# Altium footprint library SparkFun-Resistors.PCBLIB: 28 footprints (part 1 of 2)
Each footprint in its own frame and in the unit in brackets; x right, y up, seen from the top. Pads: shape width x height; smd on the part's side, far side on the other; paste and mask are expansions set on the pad; w line width, h text height; cw(c..) or ccw(c..) is an arc to the next point about the centre after c.
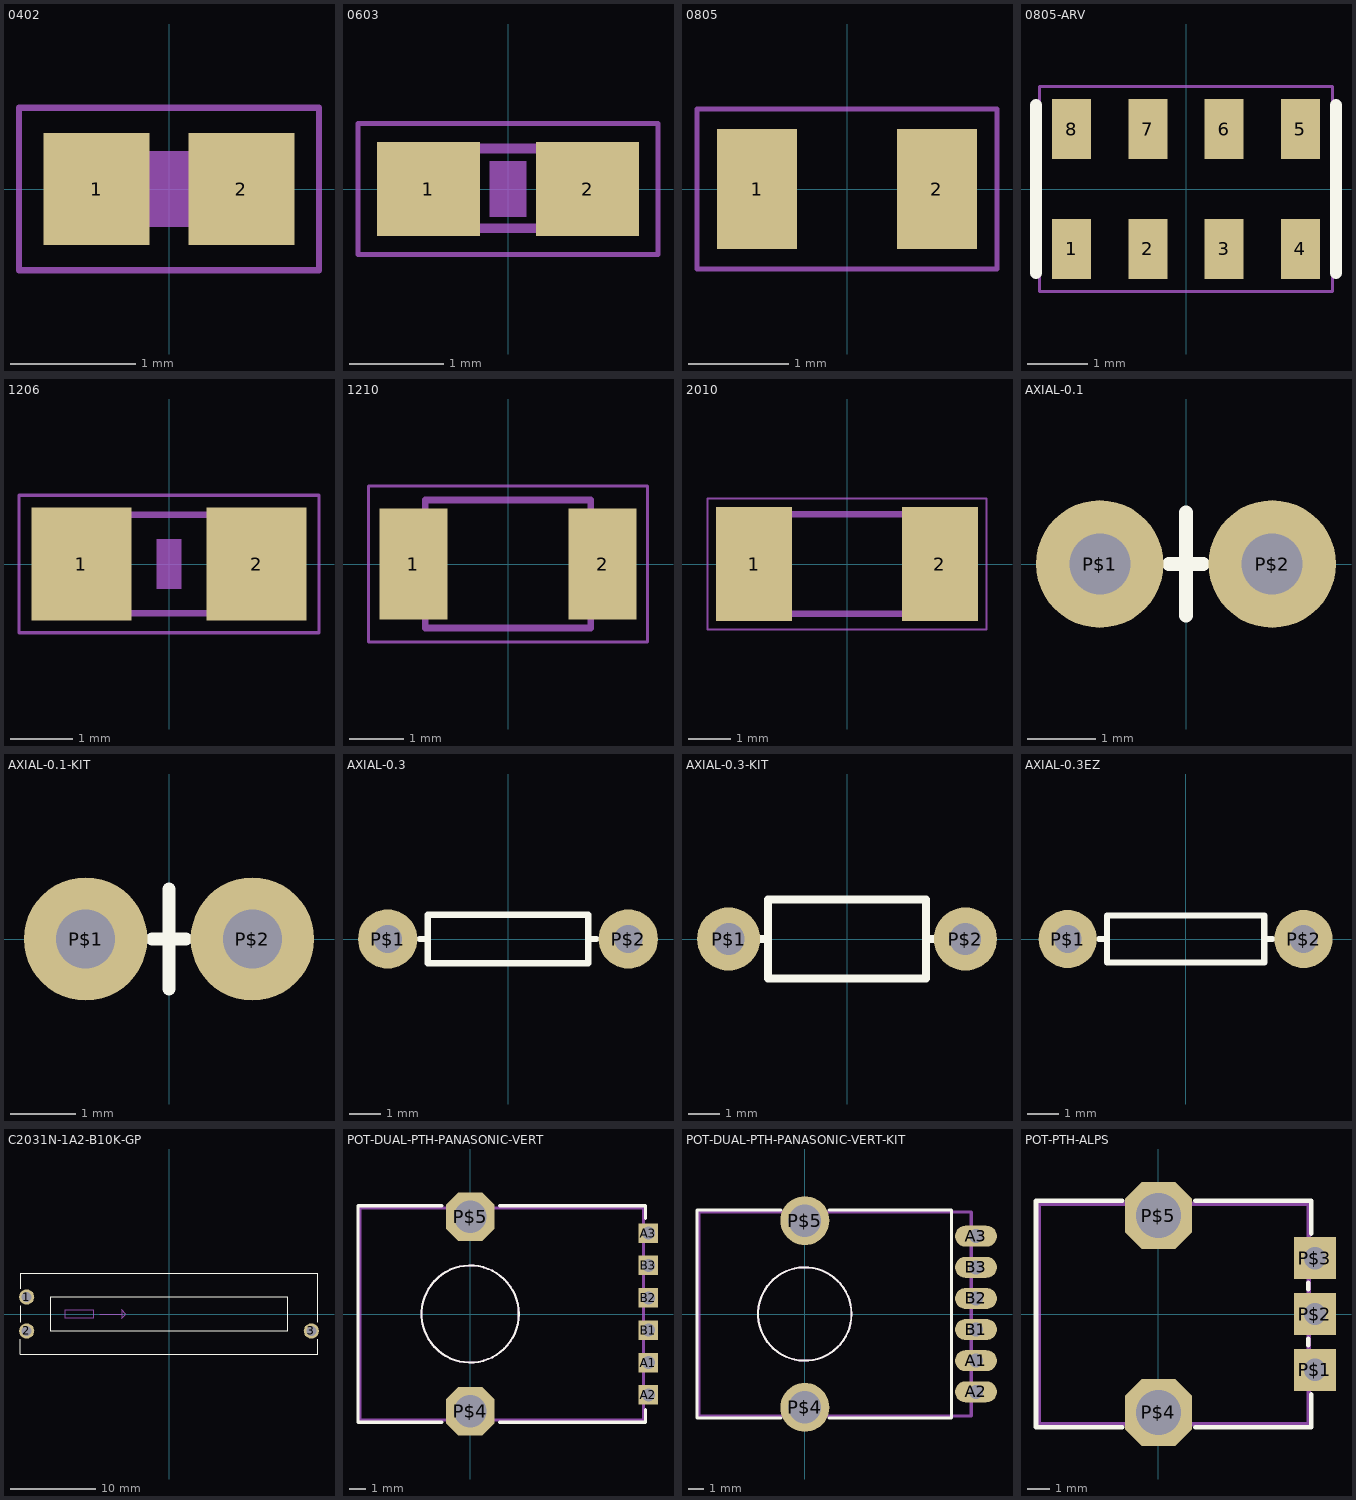
[diagram p0: the footprints below, top view; thin cyan lines are the x and y axes]

## 0402 [mm]
pads (2):
  rect 0.85x0.9 smd: 1(-0.58,0) 2(0.58,0)
Mechanical 6:
  rectangle: -0.2,-0.3 0.2,0.3
Mechanical 16:
  rectangle: -0.554,-0.305 -0.254,0.305
  rectangle: 0.259,-0.305 0.559,0.305
  lines w0.152: -0.271,-0.229 0.271,-0.229 ; -0.271,0.229 0.271,0.229
Mechanical 27:
  lines w0.051: -1.2,-0.65 1.2,-0.65 1.2,0.65 -1.2,0.65 -1.2,-0.65

## 0603 [mm]
pads (2):
  rect 1.1x1 smd: 1(-0.85,0) 2(0.85,0)
Mechanical 6:
  rectangle: -0.2,-0.3 0.2,0.3
Mechanical 16:
  rectangle: -0.838,-0.47 -0.338,0.48
  rectangle: 0.33,-0.47 0.83,0.48
  lines w0.102: -0.356,-0.419 0.356,-0.419 ; -0.356,0.432 0.356,0.432
Mechanical 27:
  lines w0.051: -1.6,-0.7 1.6,-0.7 1.6,0.7 -1.6,0.7 -1.6,-0.7

## 0805 [mil]
pads (2):
  rect 31.5x47.24 smd: 1(-35.43,0) 2(35.43,0)
Mechanical 27:
  lines w2: -59.06,-31.5 59.06,-31.5 59.06,31.5 -59.06,31.5 -59.06,-31.5

## 0805-ARV [mm]
pads (8):
  rect 0.65x1 smd: 1(-1.905,-1) 2(-0.635,-1) 3(0.635,-1) 4(1.905,-1) 5(1.905,1) 6(0.635,1) 7(-0.635,1) 8(-1.905,1)
Top Overlay:
  lines w0.203: -2.5,-1.4 -2.5,1.4 ; 2.5,-1.4 2.5,1.4
Mechanical 27:
  lines w0.051: -2.438,-1.712 2.438,-1.712 2.438,1.712 -2.438,1.712 -2.438,-1.712

## 1206 [mm]
pads (2):
  rect 1.6x1.8 smd: 1(-1.4,0) 2(1.4,0)
Mechanical 6:
  rectangle: -0.2,-0.4 0.2,0.4
Mechanical 16:
  rectangle: -1.702,-0.851 -0.952,0.849
  rectangle: 0.952,-0.849 1.702,0.851
  lines w0.102: -0.965,-0.787 0.965,-0.787 ; -0.965,0.787 0.965,0.787
Mechanical 27:
  lines w0.051: -2.4,-1.1 2.4,-1.1 2.4,1.1 -2.4,1.1 -2.4,-1.1

## 1210 [mm]
pads (2):
  rect 1.27x2.06 smd: 1(-1.755,0) 2(1.755,0)
Mechanical 16:
  lines w0.127: -1.536,-1.186 1.536,-1.186 1.536,1.186 -1.536,1.186 -1.536,-1.186
Mechanical 27:
  lines w0.051: -2.59,-1.45 2.59,-1.45 2.59,1.45 -2.59,1.45 -2.59,-1.45

## 2010 [mm]
pads (2):
  rect 1.8x2.7 smd: 1(-2.2,0) 2(2.2,0)
Mechanical 16:
  rectangle: -2.5,-1.25 -1.639,1.25
  rectangle: 1.651,-1.25 2.5,1.25
  lines w0.152: -1.789,1.174 1.789,1.174 ; -1.764,-1.174 1.814,-1.174
Mechanical 27:
  lines w0.051: -3.3,-1.55 3.3,-1.55 3.3,1.55 -3.3,1.55 -3.3,-1.55

## AXIAL-0.1 [mil]
pads (2):
  round 74 hole 35.43: P$1(-50,0) P$2(50,0)
Top Overlay:
  lines w8: -10,0 0,0 ; 0,-30 0,0 ; 0,30 0,0 ; 10,0 0,0

## AXIAL-0.1-KIT [mil]
pads (2):
  round 74 hole 35.43: P$1(-50,0) P$2(50,0)
Top Overlay:
  lines w8: -10,0 0,0 ; 0,-30 0,0 ; 0,30 0,0 ; 10,0 0,0
Top Solder:
  circle w0: c-50,0 r18
  circle w0: c-50,0 r18
  circle w0: c50,0 r18
Bottom Solder:
  circle w0: c-50,0 r40
  circle w0: c50,0 r40

## AXIAL-0.3 [mil]
pads (2):
  round 74 hole 35.43: P$1(-150,0) P$2(150,0)
Top Overlay:
  lines w8: -110,0 -100,0 ; 110,0 100,0 ; -100,0 -100,-30 100,-30 100,0 ; -100,0 -100,30 100,30 100,0

## AXIAL-0.3-KIT [mil]
pads (2):
  round 80 hole 40: P$1(-150,0) P$2(150,0)
Top Overlay:
  lines w10: -110,0 -100,0 ; 110,0 100,0 ; -100,0 -100,-50 100,-50 100,0 ; -100,0 -100,50 100,50 100,0
Top Solder:
  region: 0,0 10,0 10,10 0,10
  region: 0,0 10,0 10,10 0,10
Bottom Solder:
  region: 0,0 10,0 10,10 0,10
  region: 0,0 10,0 10,10 0,10

## AXIAL-0.3EZ [mil]
pads (2):
  round 74 hole 35.43: P$1(-150,0) P$2(150,0)
Top Overlay:
  lines w8: -110,0 -100,0 ; 110,0 100,0 ; -100,0 -100,-30 100,-30 100,0 ; -100,0 -100,30 100,30 100,0
Top Solder:
  circle w0: c-150,0 r20
  circle w0: c150,0 r20.62
Bottom Solder:
  circle w0: c-150,0 r40.31
  circle w0: c150,0 r41.23

## C2031N-1A2-B10K-GP [mm]
pads (3):
  round 1.8 hole 1.2: 1(-16.75,2) 2(-16.75,-2) 3(16.75,-2)
Top Overlay:
  lines w0.127: -17.5,-3 -17.5,-4.75 17.5,-4.75 17.5,-3 ; -17.5,-1 -17.5,1 ; -17.5,3 -17.5,4.75 17.5,4.75 17.5,-1 ; -14,-2 -14,2 14,2 14,-2 -14,-2
Mechanical 13:
  lines w0.127: -8.128,0 -5.588,0 ; -5.588,0 -5.588,-0.508 -5.08,0 -5.588,0.508 -5.588,0 ; -12.192,-0.508 -8.89,-0.508 -8.89,0.508 -12.192,0.508 -12.192,-0.508

## POT-DUAL-PTH-PANASONIC-VERT [mm]
pads (8):
  rect 1.2x1.2 hole 0.8: A1(11,-3) A2(11,-5) A3(11,5) B1(11,-1) B2(11,1) B3(11,3)
  oct 3x3 hole 2: P$4(0,-6) P$5(0,6)
Top Overlay:
  circle w0.127: c0,0 r3
  lines w0.203: -1.746,-6.677 -6.927,-6.677 -6.927,6.677 -1.746,6.677 ; 1.836,-6.677 10.827,-6.677 10.827,-5.896 ; 1.836,6.677 10.827,6.677 10.827,5.896
Mechanical 16:
  circle w0.127: c0,0 r3
  lines w0.203: -6.8,-6.55 10.7,-6.55 10.7,6.55 -6.8,6.55 -6.8,-6.55

## POT-DUAL-PTH-PANASONIC-VERT-KIT [mm]
pads (8):
  oval 2.7x1.35 hole 0.9: A1(11,-3) A2(11,-5) A3(11,5) B1(11,-1) B2(11,1) B3(11,3)
  round 3.15 hole 2.1: P$4(0,-6) P$5(0,6)
Top Overlay:
  circle w0.127: c0,0 r3
  lines w0.203: -1.55,-6.677 -6.927,-6.677 -6.927,6.677 -1.55,6.677 ; 1.55,-6.677 9.43,-6.677 9.43,6.677 1.55,6.677
Top Solder:
  circle w0: c0,6 r1.05
  circle w0: c0,-6 r1.05
  circle w0: c11,5 r0.45
  circle w0: c11,3 r0.45
  circle w0: c11,1 r0.45
  circle w0: c11,-1 r0.45
  circle w0: c11,-3 r0.45
  circle w0: c11,-5 r0.45
Bottom Solder:
  circle w0: c0,6 r1.626
  circle w0: c0,-6 r1.626
  region: 0,0 0.254,0 0.254,0.254 0,0.254
  region: 0,0 0.254,0 0.254,0.254 0,0.254
  region: 0,0 0.254,0 0.254,0.254 0,0.254
  region: 0,0 0.254,0 0.254,0.254 0,0.254
  region: 0,0 0.254,0 0.254,0.254 0,0.254
  region: 0,0 0.254,0 0.254,0.254 0,0.254
Mechanical 16:
  circle w0.127: c0,0 r3
  lines w0.203: -6.8,-6.55 10.7,-6.55 10.7,6.55 -6.8,6.55 -6.8,-6.55

## POT-PTH-ALPS [mm]
pads (5):
  rect 1.88x1.88 hole 1: P$1(7,-2.5) P$2(7,0) P$3(7,2.5)
  oct 3x3 hole 2: P$4(0,-4.4) P$5(0,4.4)
Top Overlay:
  lines w0.203: -1.625,-5.057 -5.473,-5.057 -5.473,5.057 -1.625,5.057 ; 1.639,-5.057 6.827,-5.057 ; 1.64,5.057 6.827,5.057 6.827,3.6 ; 6.7,-1.4 6.7,-1.1 ; 6.7,1.1 6.7,1.4 ; 6.827,-5.027 6.827,-3.6
Mechanical 16:
  lines w0.203: -5.346,-4.93 6.73,-4.93 6.73,4.93 -5.346,4.93 -5.346,-4.93